# EAGLE library part BEAGLEBONEBLACK (library SmartMirror)
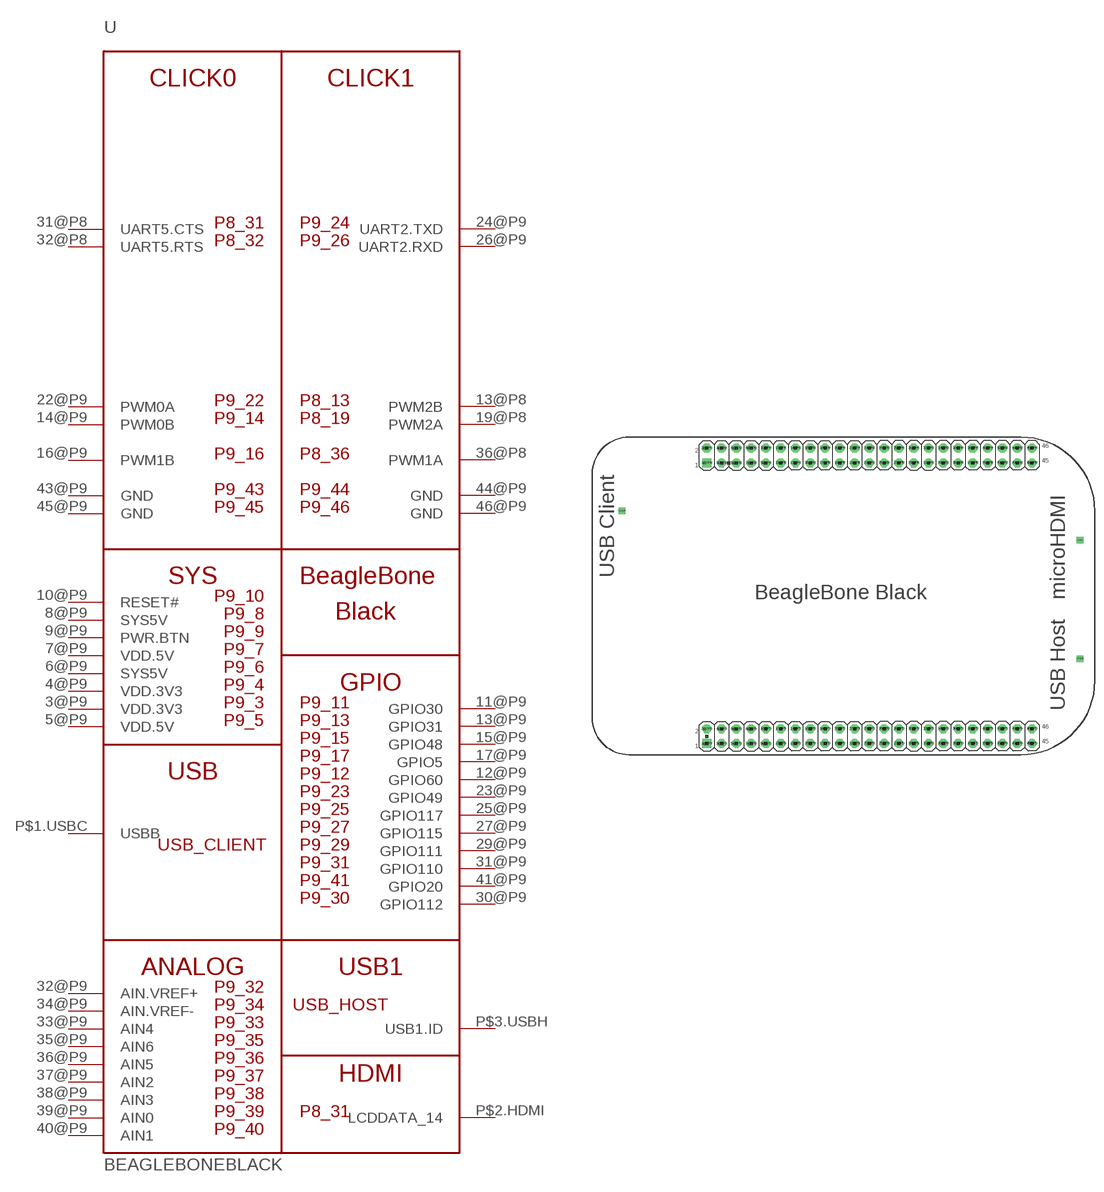
[diagram p1: symbol with the pads of BEAGLEBONEBLACK; footprint BEAGLEBONEBLACK]

Designator prefix U

## BEAGLEBONEBLACK  [BEAGLEBONEBLACK]
3@P9  VDD.3V3  pwr
4@P9  VDD.3V3
5@P9  VDD.5V  in
6@P9  SYS5V  pwr
7@P9  VDD.5V
8@P9  SYS5V
9@P9  PWR.BTN  in
10@P9  RESET#  in
11@P9  GPIO30
12@P9  GPIO60
13@P8  PWM2B
13@P9  GPIO31
14@P9  PWM0B
15@P9  GPIO48
16@P9  PWM1B
17@P9  GPIO5
19@P8  PWM2A
22@P9  PWM0A
23@P9  GPIO49
24@P9  UART2.TXD
25@P9  GPIO117
26@P9  UART2.RXD
27@P9  GPIO115
29@P9  GPIO111
30@P9  GPIO112
31@P8  UART5.CTS
31@P9  GPIO110
32@P8  UART5.RTS
32@P9  AIN.VREF+  in
33@P9  AIN4  in
34@P9  AIN.VREF-  in
35@P9  AIN6  in
36@P8  PWM1A
36@P9  AIN5  in
37@P9  AIN2  in
38@P9  AIN3  in
39@P9  AIN0  in
40@P9  AIN1
41@P9  GPIO20
43@P9  GND  pwr
44@P9  GND  pwr
45@P9  GND  pwr
46@P9  GND  pwr
P$1.USBC  USBB
P$2.HDMI  LCDDATA_14
P$3.USBH  USB1.ID

## Footprint BEAGLEBONEBLACK (pad centres in mm)
Package generated by make-group2pac.ulp from: /Users/riceloaner/Downloads/beaglebone-black-wireless-master/EAGLE/BeagleBone_Black_Wireless.brd at: 12/12/21 11:20 PM
drill 0.762 pad 1.524 square: 1@P8 19.685,50.165; 1@P9 19.685,1.905
drill 0.762 pad 1.524 octagon: 2@P8 19.685,52.705; 2@P9 19.685,4.445; 3@P8 22.225,50.165; 3@P9 22.225,1.905; 4@P8 22.225,52.705; 4@P9 22.225,4.445; 5@P8 24.765,50.165; 5@P9 24.765,1.905; 6@P8 24.765,52.705; 6@P9 24.765,4.445; 7@P8 27.305,50.165; 7@P9 27.305,1.905; 8@P8 27.305,52.705; 8@P9 27.305,4.445; 9@P8 29.845,50.165; 9@P9 29.845,1.905; 10@P8 29.845,52.705; 10@P9 29.845,4.445; 11@P8 32.385,50.165; 11@P9 32.385,1.905; 12@P8 32.385,52.705; 12@P9 32.385,4.445; 13@P8 34.925,50.165; 13@P9 34.925,1.905; 14@P8 34.925,52.705; 14@P9 34.925,4.445; 15@P8 37.465,50.165; 15@P9 37.465,1.905; 16@P8 37.465,52.705; 16@P9 37.465,4.445; 17@P8 40.005,50.165; 17@P9 40.005,1.905; 18@P8 40.005,52.705; 18@P9 40.005,4.445; 19@P8 42.545,50.165; 19@P9 42.545,1.905; 20@P8 42.545,52.705; 20@P9 42.545,4.445; 21@P8 45.085,50.165; 21@P9 45.085,1.905; 22@P8 45.085,52.705; 22@P9 45.085,4.445; 23@P8 47.625,50.165; 23@P9 47.625,1.905; 24@P8 47.625,52.705; 24@P9 47.625,4.445; 25@P8 50.165,50.165; 25@P9 50.165,1.905; 26@P8 50.165,52.705; 26@P9 50.165,4.445; 27@P8 52.705,50.165; 27@P9 52.705,1.905; 28@P8 52.705,52.705; 28@P9 52.705,4.445; 29@P8 55.245,50.165; 29@P9 55.245,1.905; 30@P8 55.245,52.705; 30@P9 55.245,4.445; 31@P8 57.785,50.165; 31@P9 57.785,1.905; 32@P8 57.785,52.705; 32@P9 57.785,4.445; 33@P8 60.325,50.165; 33@P9 60.325,1.905; 34@P8 60.325,52.705; 34@P9 60.325,4.445; 35@P8 62.865,50.165; 35@P9 62.865,1.905; 36@P8 62.865,52.705; 36@P9 62.865,4.445; 37@P8 65.405,50.165; 37@P9 65.405,1.905; 38@P8 65.405,52.705; 38@P9 65.405,4.445; 39@P8 67.945,50.165; 39@P9 67.945,1.905; 40@P8 67.945,52.705; 40@P9 67.945,4.445; 41@P8 70.485,50.165; 41@P9 70.485,1.905; 42@P8 70.485,52.705; 42@P9 70.485,4.445; 43@P8 73.025,50.165; 43@P9 73.025,1.905; 44@P8 73.025,52.705; 44@P9 73.025,4.445; 45@P8 75.565,50.165; 45@P9 75.565,1.905; 46@P8 75.565,52.705; 46@P9 75.565,4.445
drill 0.6 square: P$1.USBC 5.08,41.91; P$2.HDMI 83.82,36.83; P$3.USBH 83.82,16.51